# EAGLE library part 1709678 (library 1709678)
Conn Terminal Block 20 POS 3.5mm Solder 17.5A
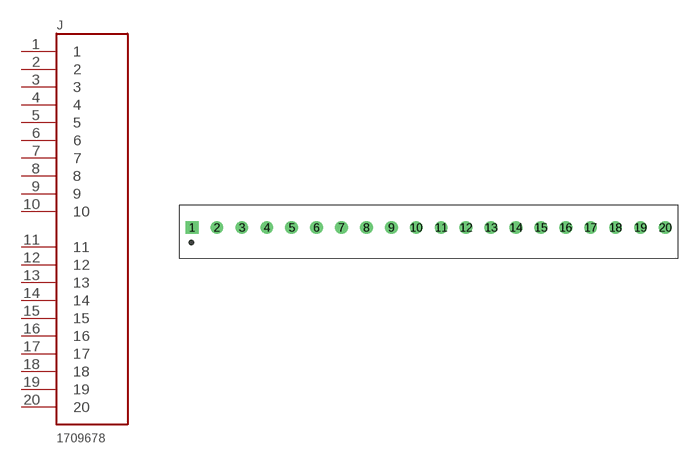
[diagram p0: symbol with the pads of PHOENIX_1709678; footprint PHOENIX_1709678]

Designator prefix J

## 1709678 (Description: 20 Position Wire to Board Terminal Block Horizontal with Board 0.138 (3.50mm) Through Hole; Digi-Key_Part_Number: 277-8588-ND; MF: Phoenix Contact; MP: 1709678; Package: None; Purchase-URL: https://pricing.snapeda.com/search/part/1709678/?ref=eda)  [PHOENIX_1709678]
1  1  pas
2  2  pas
3  3  pas
4  4  pas
5  5  pas
6  6  pas
7  7  pas
8  8  pas
9  9  pas
10  10  pas
11  11  pas
12  12  pas
13  13  pas
14  14  pas
15  15  pas
16  16  pas
17  17  pas
18  18  pas
19  19  pas
20  20  pas

## Footprint PHOENIX_1709678 (pad centres in mm)
drill 1.2 square: 1 0,0
drill 1.2: 2 3.5,0; 3 7,0; 4 10.5,0; 5 14,0; 6 17.5,0; 7 21,0; 8 24.5,0; 9 28,0; 10 31.5,0; 11 35,0; 12 38.5,0; 13 42,0; 14 45.5,0; 15 49,0; 16 52.5,0; 17 56,0; 18 59.5,0; 19 63,0; 20 66.5,0